# Altium integrated library NSC Amplifier.IntLib: 1615 symbols (part 29 of 44)
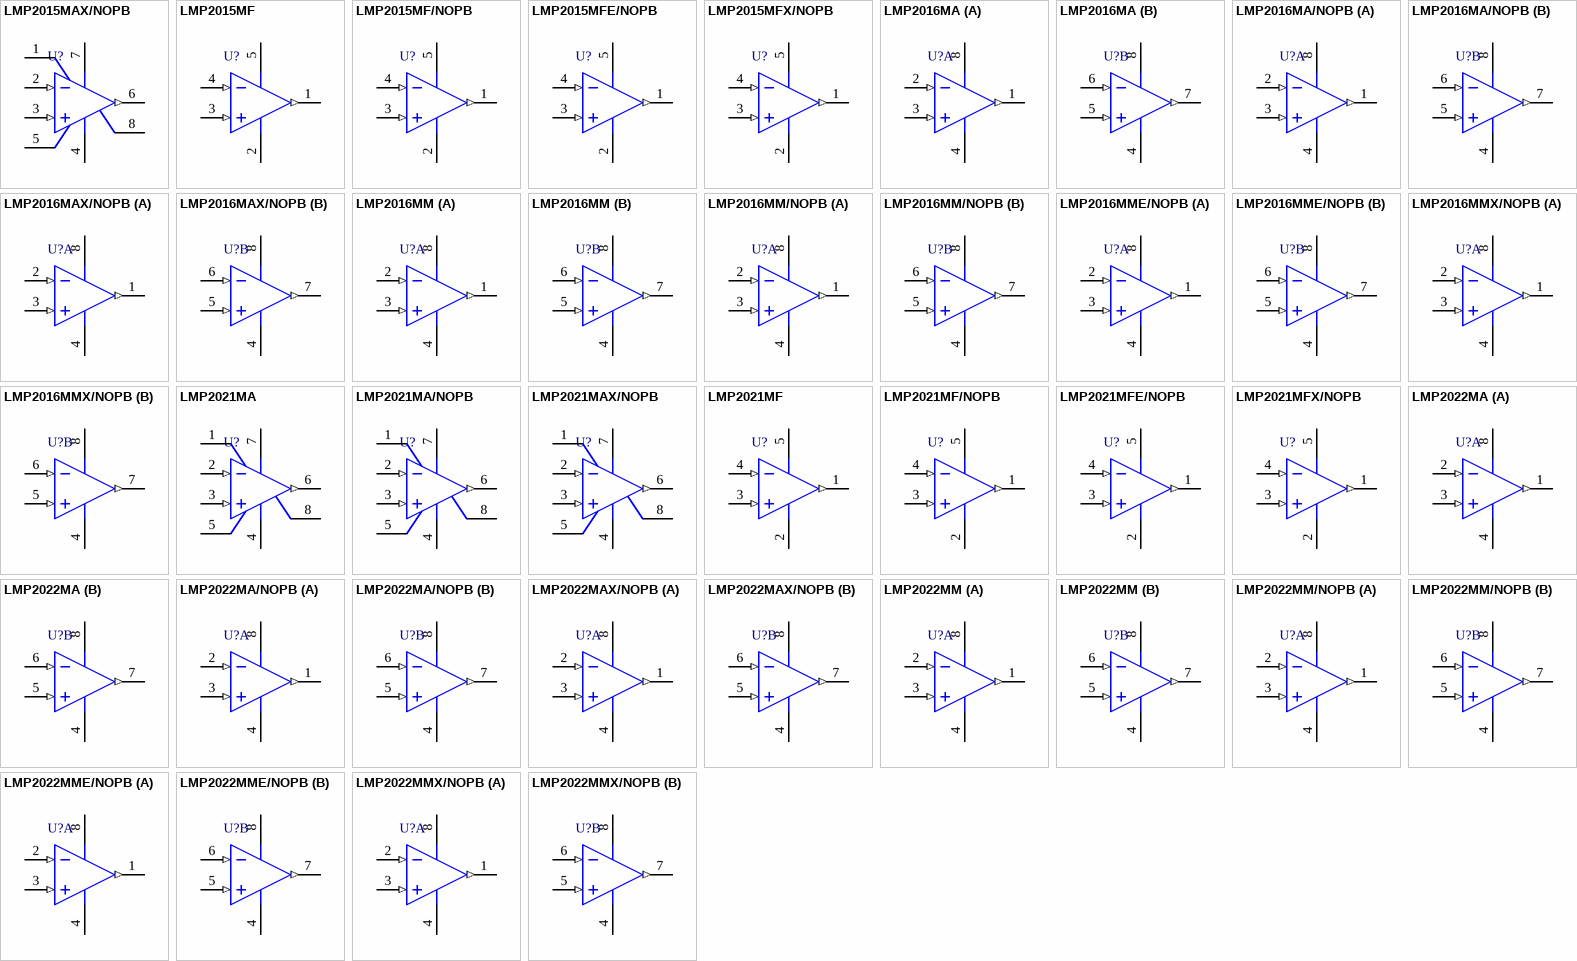
[diagram p110: symbols LMP2015MAX/NOPB to LMP2022MMX/NOPB]

## LMP2022MM/NOPB
designator U?
Zero Drift, Low Noise, EMI Hardened Amplifier, 8-pin Mini SOIC, Pb-Free; PartNumber: LMP2022MM/NOPB; Manufacturer: National Semiconductor; PackageTopMarking: ZXTT*AV5A; PowerWise: N; CompType: Amplifiers; Published: 1-Mar-2010; DatasheetVersion: Jul-2009; PackageVersion: revF, Apr-2008; PackageReference: MUA08A; Publisher: Altium Limited; PackageDescription: MINI SOIC, .118 x .118 x .034in, 8 Lead, .0256in Pitch; Supplier 1: Digi-Key; Supplier Part Number 1: LMP2022MM-ND; RoHS: Y; PinCount: 8; Code_JEDEC: MO-187-AA; ComponentLink1Description: LMP2022 Datasheet; ComponentLink1URL: http://www.national.com/ds/LM/LMP2022.pdf; ComponentLink2Description: LMP2022 Web Page; ComponentLink2URL: http://www.national.com/pf/LM/LMP2022.html; ComponentLink3Description: MUA08A Package Page; ComponentLink3URL: http://www.national.com/packaging/folders/mua08a.html
footprint MUA08A_N (TSOP, 8-Leads, Body 3x3mm, Pitch 0.65mm, IPC Medium Density)
footprint MUA08A_L (TSOP, 8-Leads, Body 3x3mm, Pitch 0.65mm, IPC High Density)
footprint MUA08A_M (TSOP, 8-Leads, Body 3x3mm, Pitch 0.65mm, IPC Low Density)
simulation model LMP2022 (SUBCKT)
pins on every part: 4 V- (power), 8 V+ (power)
part A pins: 1 OUTA (out), 2 INA- (in), 3 INA+ (in)
part B pins: 5 INB+ (in), 6 INB- (in), 7 OUTB (out)

## LMP2022MME/NOPB
designator U?
Zero Drift, Low Noise, EMI Hardened Amplifier, 8-pin Mini SOIC, Pb-Free; PartNumber: LMP2022MME/NOPB; Manufacturer: National Semiconductor; PackageTopMarking: ZXTT*AV5A; PowerWise: N; CompType: Amplifiers; Published: 1-Mar-2010; DatasheetVersion: Jul-2009; PackageVersion: revF, Apr-2008; PackageReference: MUA08A; Publisher: Altium Limited; PackageDescription: MINI SOIC, .118 x .118 x .034in, 8 Lead, .0256in Pitch; Supplier 1: Digi-Key; Supplier Part Number 1: LMP2022MMETR-ND; Supplier 2: Digi-Key; Supplier Part Number 2: LMP2022MMECT-ND; Supplier 3: Digi-Key; Supplier Part Number 3: LMP2022MMEDKR-ND; Supplier 4: Farnell; Supplier Part Number 4: 1684982; RoHS: Y; PinCount: 8; Code_JEDEC: MO-187-AA; ComponentLink1Description: LMP2022 Datasheet; ComponentLink1URL: http://www.national.com/ds/LM/LMP2022.pdf; ComponentLink2Description: LMP2022 Web Page; ComponentLink2URL: http://www.national.com/pf/LM/LMP2022.html; ComponentLink3Description: MUA08A Package Page; ComponentLink3URL: http://www.national.com/packaging/folders/mua08a.html
footprint MUA08A_N (TSOP, 8-Leads, Body 3x3mm, Pitch 0.65mm, IPC Medium Density)
footprint MUA08A_L (TSOP, 8-Leads, Body 3x3mm, Pitch 0.65mm, IPC High Density)
footprint MUA08A_M (TSOP, 8-Leads, Body 3x3mm, Pitch 0.65mm, IPC Low Density)
simulation model LMP2022 (SUBCKT)
pins on every part: 4 V- (power), 8 V+ (power)
part A pins: 1 OUTA (out), 2 INA- (in), 3 INA+ (in)
part B pins: 5 INB+ (in), 6 INB- (in), 7 OUTB (out)

## LMP2022MMX/NOPB
designator U?
Zero Drift, Low Noise, EMI Hardened Amplifier, 8-pin Mini SOIC, Pb-Free; PartNumber: LMP2022MMX/NOPB; Manufacturer: National Semiconductor; PackageTopMarking: ZXTT*AV5A; PowerWise: N; CompType: Amplifiers; Published: 1-Mar-2010; DatasheetVersion: Jul-2009; PackageVersion: revF, Apr-2008; PackageReference: MUA08A; Publisher: Altium Limited; PackageDescription: MINI SOIC, .118 x .118 x .034in, 8 Lead, .0256in Pitch; Supplier 1: Digi-Key; Supplier Part Number 1: LMP2022MMX-ND; RoHS: Y; PinCount: 8; Code_JEDEC: MO-187-AA; ComponentLink1Description: LMP2022 Datasheet; ComponentLink1URL: http://www.national.com/ds/LM/LMP2022.pdf; ComponentLink2Description: LMP2022 Web Page; ComponentLink2URL: http://www.national.com/pf/LM/LMP2022.html; ComponentLink3Description: MUA08A Package Page; ComponentLink3URL: http://www.national.com/packaging/folders/mua08a.html
footprint MUA08A_N (TSOP, 8-Leads, Body 3x3mm, Pitch 0.65mm, IPC Medium Density)
footprint MUA08A_L (TSOP, 8-Leads, Body 3x3mm, Pitch 0.65mm, IPC High Density)
footprint MUA08A_M (TSOP, 8-Leads, Body 3x3mm, Pitch 0.65mm, IPC Low Density)
simulation model LMP2022 (SUBCKT)
pins on every part: 4 V- (power), 8 V+ (power)
part A pins: 1 OUTA (out), 2 INA- (in), 3 INA+ (in)
part B pins: 5 INB+ (in), 6 INB- (in), 7 OUTB (out)

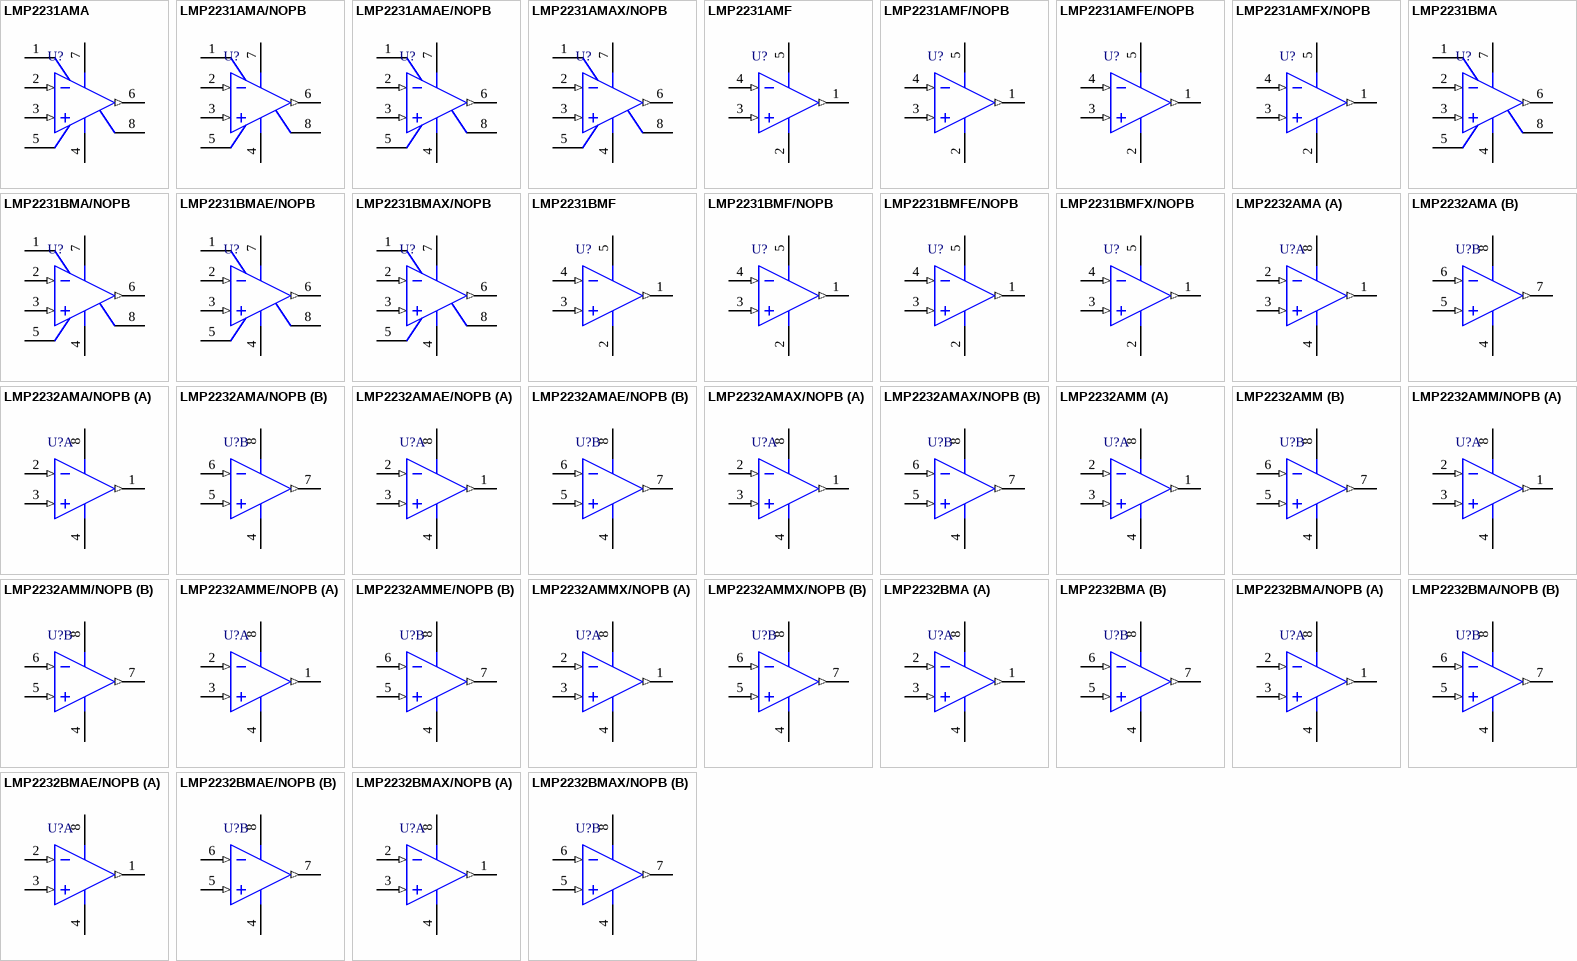
[diagram p56: symbols LMP2231AMA to LMP2232BMAX/NOPB]

## LMP2231AMA
designator U?
Single Micropower, 1.6V, Precision Operational Amplifier with CMOS Inputs, 8-pin Narrow SOIC; PartNumber: LMP2231AMA; Manufacturer: National Semiconductor; PackageTopMarking: NSZXTT*LMP22*31AMA; PowerWise: N; CompType: Amplifiers; Published: 4-Dec-2008; DatasheetVersion: Dec-2008; PackageVersion: revM, May-2009; PackageReference: M08A; Publisher: Altium Limited; PackageDescription: SOIC Narrow, 4.9 x 3.9 x 1.45mm, 8 Lead, 1.27mm Pitch; RoHS: Y; PinCount: 8; Code_JEDEC: MS-012-AA; Code_IPC: SOIC127P600-8; ComponentLink1Description: LMP2231 Datasheet; ComponentLink1URL: http://www.national.com/ds/LM/LMP2231.pdf; ComponentLink2Description: LMP2231 Web Page; ComponentLink2URL: http://www.national.com/pf/LM/LMP2231.html; ComponentLink3Description: M08A Package Page; ComponentLink3URL: http://www.national.com/packaging/folders/m08a.html
footprint M08A_N (SOIC, 8-Leads, Body 4.9x3.9mm, Pitch 1.27mm, IPC Medium Density)
footprint M08A_L (SOIC, 8-Leads, Body 4.9x3.9mm, Pitch 1.27mm, IPC High Density)
footprint M08A_M (SOIC, 8-Leads, Body 4.9x3.9mm, Pitch 1.27mm, IPC Low Density)
pins: 1 NC, 2 IN- (in), 3 IN+ (in), 4 V- (power), 5 NC, 6 OUT (out), 7 V+ (power), 8 NC

## LMP2231AMA/NOPB
designator U?
Single Micropower, 1.6V, Precision Operational Amplifier with CMOS Inputs, 8-pin Narrow SOIC, Pb-Free; PartNumber: LMP2231AMA/NOPB; Manufacturer: National Semiconductor; PackageTopMarking: NSZXTT*LMP22*31AMA; PowerWise: N; CompType: Amplifiers; Published: 1-Mar-2010; DatasheetVersion: Dec-2008; PackageVersion: revM, May-2009; PackageReference: M08A; Publisher: Altium Limited; PackageDescription: SOIC Narrow, 4.9 x 3.9 x 1.45mm, 8 Lead, 1.27mm Pitch; Supplier 1: Digi-Key; Supplier Part Number 1: LMP2231AMA-ND; RoHS: Y; PinCount: 8; Code_JEDEC: MS-012-AA; Code_IPC: SOIC127P600-8; ComponentLink1Description: LMP2231 Datasheet; ComponentLink1URL: http://www.national.com/ds/LM/LMP2231.pdf; ComponentLink2Description: LMP2231 Web Page; ComponentLink2URL: http://www.national.com/pf/LM/LMP2231.html; ComponentLink3Description: M08A Package Page; ComponentLink3URL: http://www.national.com/packaging/folders/m08a.html
footprint M08A_N (SOIC, 8-Leads, Body 4.9x3.9mm, Pitch 1.27mm, IPC Medium Density)
footprint M08A_L (SOIC, 8-Leads, Body 4.9x3.9mm, Pitch 1.27mm, IPC High Density)
footprint M08A_M (SOIC, 8-Leads, Body 4.9x3.9mm, Pitch 1.27mm, IPC Low Density)
simulation model LMP2231 (SUBCKT)
pins: 1 NC, 2 IN- (in), 3 IN+ (in), 4 V- (power), 5 NC, 6 OUT (out), 7 V+ (power), 8 NC

## LMP2231AMAE/NOPB
designator U?
Single Micropower, 1.6V, Precision Operational Amplifier with CMOS Inputs, 8-pin Narrow SOIC, Pb-Free; PartNumber: LMP2231AMAE/NOPB; Manufacturer: National Semiconductor; PackageTopMarking: NSZXTT*LMP22*31AMA; PowerWise: N; CompType: Amplifiers; Published: 1-Mar-2010; DatasheetVersion: Dec-2008; PackageVersion: revM, May-2009; PackageReference: M08A; Publisher: Altium Limited; PackageDescription: SOIC Narrow, 4.9 x 3.9 x 1.45mm, 8 Lead, 1.27mm Pitch; Supplier 1: Digi-Key; Supplier Part Number 1: LMP2231AMAE-ND; RoHS: Y; PinCount: 8; Code_JEDEC: MS-012-AA; Code_IPC: SOIC127P600-8; ComponentLink1Description: LMP2231 Datasheet; ComponentLink1URL: http://www.national.com/ds/LM/LMP2231.pdf; ComponentLink2Description: LMP2231 Web Page; ComponentLink2URL: http://www.national.com/pf/LM/LMP2231.html; ComponentLink3Description: M08A Package Page; ComponentLink3URL: http://www.national.com/packaging/folders/m08a.html
footprint M08A_N (SOIC, 8-Leads, Body 4.9x3.9mm, Pitch 1.27mm, IPC Medium Density)
footprint M08A_L (SOIC, 8-Leads, Body 4.9x3.9mm, Pitch 1.27mm, IPC High Density)
footprint M08A_M (SOIC, 8-Leads, Body 4.9x3.9mm, Pitch 1.27mm, IPC Low Density)
simulation model LMP2231 (SUBCKT)
pins: 1 NC, 2 IN- (in), 3 IN+ (in), 4 V- (power), 5 NC, 6 OUT (out), 7 V+ (power), 8 NC

## LMP2231AMAX/NOPB
designator U?
Single Micropower, 1.6V, Precision Operational Amplifier with CMOS Inputs, 8-pin Narrow SOIC, Pb-Free; PartNumber: LMP2231AMAX/NOPB; Manufacturer: National Semiconductor; PackageTopMarking: NSZXTT*LMP22*31AMA; PowerWise: N; CompType: Amplifiers; Published: 1-Mar-2010; DatasheetVersion: Dec-2008; PackageVersion: revM, May-2009; PackageReference: M08A; Publisher: Altium Limited; PackageDescription: SOIC Narrow, 4.9 x 3.9 x 1.45mm, 8 Lead, 1.27mm Pitch; Supplier 1: Digi-Key; Supplier Part Number 1: LMP2231AMAX-ND; RoHS: Y; PinCount: 8; Code_JEDEC: MS-012-AA; Code_IPC: SOIC127P600-8; ComponentLink1Description: LMP2231 Datasheet; ComponentLink1URL: http://www.national.com/ds/LM/LMP2231.pdf; ComponentLink2Description: LMP2231 Web Page; ComponentLink2URL: http://www.national.com/pf/LM/LMP2231.html; ComponentLink3Description: M08A Package Page; ComponentLink3URL: http://www.national.com/packaging/folders/m08a.html
footprint M08A_N (SOIC, 8-Leads, Body 4.9x3.9mm, Pitch 1.27mm, IPC Medium Density)
footprint M08A_L (SOIC, 8-Leads, Body 4.9x3.9mm, Pitch 1.27mm, IPC High Density)
footprint M08A_M (SOIC, 8-Leads, Body 4.9x3.9mm, Pitch 1.27mm, IPC Low Density)
simulation model LMP2231 (SUBCKT)
pins: 1 NC, 2 IN- (in), 3 IN+ (in), 4 V- (power), 5 NC, 6 OUT (out), 7 V+ (power), 8 NC

## LMP2231AMF
designator U?
Single Micropower, 1.6V, Precision Operational Amplifier with CMOS Inputs, 5-pin SOT-23; PartNumber: LMP2231AMF; Manufacturer: National Semiconductor; PackageTopMarking: AL5A*XTT; PowerWise: N; CompType: Amplifiers; Published: 4-Dec-2008; DatasheetVersion: Dec-2008; PackageVersion: revD, Aug-2008; PackageReference: MF05A; Publisher: Altium Limited; PackageDescription: Molded SOT-23, .115 x .063 x .040 in Body, 5 Lead, .0375 in Pitch; RoHS: Y; PinCount: 5; ComponentLink1Description: LMP2231 Datasheet; ComponentLink1URL: http://www.national.com/ds/LM/LMP2231.pdf; ComponentLink2Description: LMP2231 Web Page; ComponentLink2URL: http://www.national.com/pf/LM/LMP2231.html; ComponentLink3Description: MF05A Package Page; ComponentLink3URL: http://www.national.com/packaging/folders/mf05a.html
footprint MF05A_N (SOT23, 5-Leads, Body 2.9x1.6mm, Pitch 0.95mm, Lead Span 2.8mm, IPC Medium Density)
footprint MF05A_L (SOT23, 5-Leads, Body 2.9x1.6mm, Pitch 0.95mm, Lead Span 2.8mm, IPC High Density)
footprint MF05A_M (SOT23, 5-Leads, Body 2.9x1.6mm, Pitch 0.95mm, Lead Span 2.8mm, IPC Low Density)
pins: 1 OUT (out), 2 V- (power), 3 IN+ (in), 4 IN- (in), 5 V+ (power)

## LMP2231AMF/NOPB
designator U?
Single Micropower, 1.6V, Precision Operational Amplifier with CMOS Inputs, 5-pin SOT-23, Pb-Free; PartNumber: LMP2231AMF/NOPB; Manufacturer: National Semiconductor; PackageTopMarking: AL5A*XTT; PowerWise: N; CompType: Amplifiers; Published: 1-Mar-2010; DatasheetVersion: Dec-2008; PackageVersion: revD, Aug-2008; PackageReference: MF05A; Publisher: Altium Limited; PackageDescription: Molded SOT-23, .115 x .063 x .040 in Body, 5 Lead, .0375 in Pitch; Supplier 1: Digi-Key; Supplier Part Number 1: LMP2231AMFTR-ND; Supplier 2: Digi-Key; Supplier Part Number 2: LMP2231AMFCT-ND; Supplier 3: Digi-Key; Supplier Part Number 3: LMP2231AMFDKR-ND; Supplier 4: Farnell; Supplier Part Number 4: 1694642; RoHS: Y; PinCount: 5; ComponentLink1Description: LMP2231 Datasheet; ComponentLink1URL: http://www.national.com/ds/LM/LMP2231.pdf; ComponentLink2Description: LMP2231 Web Page; ComponentLink2URL: http://www.national.com/pf/LM/LMP2231.html; ComponentLink3Description: MF05A Package Page; ComponentLink3URL: http://www.national.com/packaging/folders/mf05a.html
footprint MF05A_N (SOT23, 5-Leads, Body 2.9x1.6mm, Pitch 0.95mm, Lead Span 2.8mm, IPC Medium Density)
footprint MF05A_L (SOT23, 5-Leads, Body 2.9x1.6mm, Pitch 0.95mm, Lead Span 2.8mm, IPC High Density)
footprint MF05A_M (SOT23, 5-Leads, Body 2.9x1.6mm, Pitch 0.95mm, Lead Span 2.8mm, IPC Low Density)
simulation model LMP2231 (SUBCKT)
pins: 1 OUT (out), 2 V- (power), 3 IN+ (in), 4 IN- (in), 5 V+ (power)

## LMP2231AMFE/NOPB
designator U?
Single Micropower, 1.6V, Precision Operational Amplifier with CMOS Inputs, 5-pin SOT-23, Pb-Free; PartNumber: LMP2231AMFE/NOPB; Manufacturer: National Semiconductor; PackageTopMarking: AL5A*XTT; PowerWise: N; CompType: Amplifiers; Published: 1-Mar-2010; DatasheetVersion: Dec-2008; PackageVersion: revD, Aug-2008; PackageReference: MF05A; Publisher: Altium Limited; PackageDescription: Molded SOT-23, .115 x .063 x .040 in Body, 5 Lead, .0375 in Pitch; Supplier 1: Digi-Key; Supplier Part Number 1: LMP2231AMFE-ND; RoHS: Y; PinCount: 5; ComponentLink1Description: LMP2231 Datasheet; ComponentLink1URL: http://www.national.com/ds/LM/LMP2231.pdf; ComponentLink2Description: LMP2231 Web Page; ComponentLink2URL: http://www.national.com/pf/LM/LMP2231.html; ComponentLink3Description: MF05A Package Page; ComponentLink3URL: http://www.national.com/packaging/folders/mf05a.html
footprint MF05A_N (SOT23, 5-Leads, Body 2.9x1.6mm, Pitch 0.95mm, Lead Span 2.8mm, IPC Medium Density)
footprint MF05A_L (SOT23, 5-Leads, Body 2.9x1.6mm, Pitch 0.95mm, Lead Span 2.8mm, IPC High Density)
footprint MF05A_M (SOT23, 5-Leads, Body 2.9x1.6mm, Pitch 0.95mm, Lead Span 2.8mm, IPC Low Density)
simulation model LMP2231 (SUBCKT)
pins: 1 OUT (out), 2 V- (power), 3 IN+ (in), 4 IN- (in), 5 V+ (power)

## LMP2231AMFX/NOPB
designator U?
Single Micropower, 1.6V, Precision Operational Amplifier with CMOS Inputs, 5-pin SOT-23, Pb-Free; PartNumber: LMP2231AMFX/NOPB; Manufacturer: National Semiconductor; PackageTopMarking: AL5A*XTT; PowerWise: N; CompType: Amplifiers; Published: 1-Mar-2010; DatasheetVersion: Dec-2008; PackageVersion: revD, Aug-2008; PackageReference: MF05A; Publisher: Altium Limited; PackageDescription: Molded SOT-23, .115 x .063 x .040 in Body, 5 Lead, .0375 in Pitch; Supplier 1: Digi-Key; Supplier Part Number 1: LMP2231AMFX-ND; RoHS: Y; PinCount: 5; ComponentLink1Description: LMP2231 Datasheet; ComponentLink1URL: http://www.national.com/ds/LM/LMP2231.pdf; ComponentLink2Description: LMP2231 Web Page; ComponentLink2URL: http://www.national.com/pf/LM/LMP2231.html; ComponentLink3Description: MF05A Package Page; ComponentLink3URL: http://www.national.com/packaging/folders/mf05a.html
footprint MF05A_N (SOT23, 5-Leads, Body 2.9x1.6mm, Pitch 0.95mm, Lead Span 2.8mm, IPC Medium Density)
footprint MF05A_L (SOT23, 5-Leads, Body 2.9x1.6mm, Pitch 0.95mm, Lead Span 2.8mm, IPC High Density)
footprint MF05A_M (SOT23, 5-Leads, Body 2.9x1.6mm, Pitch 0.95mm, Lead Span 2.8mm, IPC Low Density)
simulation model LMP2231 (SUBCKT)
pins: 1 OUT (out), 2 V- (power), 3 IN+ (in), 4 IN- (in), 5 V+ (power)

## LMP2231BMA
designator U?
Single Micropower, 1.6V, Precision Operational Amplifier with CMOS Inputs, 8-pin Narrow SOIC; PartNumber: LMP2231BMA; Manufacturer: National Semiconductor; PackageTopMarking: NSZXTT*LMP22*31BMA; PowerWise: N; CompType: Amplifiers; Published: 4-Dec-2008; DatasheetVersion: Dec-2008; PackageVersion: revM, May-2009; PackageReference: M08A; Publisher: Altium Limited; PackageDescription: SOIC Narrow, 4.9 x 3.9 x 1.45mm, 8 Lead, 1.27mm Pitch; RoHS: Y; PinCount: 8; Code_JEDEC: MS-012-AA; Code_IPC: SOIC127P600-8; ComponentLink1Description: LMP2231 Datasheet; ComponentLink1URL: http://www.national.com/ds/LM/LMP2231.pdf; ComponentLink2Description: LMP2231 Web Page; ComponentLink2URL: http://www.national.com/pf/LM/LMP2231.html; ComponentLink3Description: M08A Package Page; ComponentLink3URL: http://www.national.com/packaging/folders/m08a.html
footprint M08A_N (SOIC, 8-Leads, Body 4.9x3.9mm, Pitch 1.27mm, IPC Medium Density)
footprint M08A_L (SOIC, 8-Leads, Body 4.9x3.9mm, Pitch 1.27mm, IPC High Density)
footprint M08A_M (SOIC, 8-Leads, Body 4.9x3.9mm, Pitch 1.27mm, IPC Low Density)
pins: 1 NC, 2 IN- (in), 3 IN+ (in), 4 V- (power), 5 NC, 6 OUT (out), 7 V+ (power), 8 NC

## LMP2231BMA/NOPB
designator U?
Single Micropower, 1.6V, Precision Operational Amplifier with CMOS Inputs, 8-pin Narrow SOIC, Pb-Free; PartNumber: LMP2231BMA/NOPB; Manufacturer: National Semiconductor; PackageTopMarking: NSZXTT*LMP22*31BMA; PowerWise: N; CompType: Amplifiers; Published: 1-Mar-2010; DatasheetVersion: Dec-2008; PackageVersion: revM, May-2009; PackageReference: M08A; Publisher: Altium Limited; PackageDescription: SOIC Narrow, 4.9 x 3.9 x 1.45mm, 8 Lead, 1.27mm Pitch; Supplier 1: Digi-Key; Supplier Part Number 1: LMP2231BMA-ND; RoHS: Y; PinCount: 8; Code_JEDEC: MS-012-AA; Code_IPC: SOIC127P600-8; ComponentLink1Description: LMP2231 Datasheet; ComponentLink1URL: http://www.national.com/ds/LM/LMP2231.pdf; ComponentLink2Description: LMP2231 Web Page; ComponentLink2URL: http://www.national.com/pf/LM/LMP2231.html; ComponentLink3Description: M08A Package Page; ComponentLink3URL: http://www.national.com/packaging/folders/m08a.html
footprint M08A_N (SOIC, 8-Leads, Body 4.9x3.9mm, Pitch 1.27mm, IPC Medium Density)
footprint M08A_L (SOIC, 8-Leads, Body 4.9x3.9mm, Pitch 1.27mm, IPC High Density)
footprint M08A_M (SOIC, 8-Leads, Body 4.9x3.9mm, Pitch 1.27mm, IPC Low Density)
simulation model LMP2231 (SUBCKT)
pins: 1 NC, 2 IN- (in), 3 IN+ (in), 4 V- (power), 5 NC, 6 OUT (out), 7 V+ (power), 8 NC

## LMP2231BMAE/NOPB
designator U?
Single Micropower, 1.6V, Precision Operational Amplifier with CMOS Inputs, 8-pin Narrow SOIC, Pb-Free; PartNumber: LMP2231BMAE/NOPB; Manufacturer: National Semiconductor; PackageTopMarking: NSZXTT*LMP22*31BMA; PowerWise: N; CompType: Amplifiers; Published: 1-Mar-2010; DatasheetVersion: Dec-2008; PackageVersion: revM, May-2009; PackageReference: M08A; Publisher: Altium Limited; PackageDescription: SOIC Narrow, 4.9 x 3.9 x 1.45mm, 8 Lead, 1.27mm Pitch; Supplier 1: Digi-Key; Supplier Part Number 1: LMP2231BMAE-ND; RoHS: Y; PinCount: 8; Code_JEDEC: MS-012-AA; Code_IPC: SOIC127P600-8; ComponentLink1Description: LMP2231 Datasheet; ComponentLink1URL: http://www.national.com/ds/LM/LMP2231.pdf; ComponentLink2Description: LMP2231 Web Page; ComponentLink2URL: http://www.national.com/pf/LM/LMP2231.html; ComponentLink3Description: M08A Package Page; ComponentLink3URL: http://www.national.com/packaging/folders/m08a.html
footprint M08A_N (SOIC, 8-Leads, Body 4.9x3.9mm, Pitch 1.27mm, IPC Medium Density)
footprint M08A_L (SOIC, 8-Leads, Body 4.9x3.9mm, Pitch 1.27mm, IPC High Density)
footprint M08A_M (SOIC, 8-Leads, Body 4.9x3.9mm, Pitch 1.27mm, IPC Low Density)
simulation model LMP2231 (SUBCKT)
pins: 1 NC, 2 IN- (in), 3 IN+ (in), 4 V- (power), 5 NC, 6 OUT (out), 7 V+ (power), 8 NC

## LMP2231BMAX/NOPB
designator U?
Single Micropower, 1.6V, Precision Operational Amplifier with CMOS Inputs, 8-pin Narrow SOIC, Pb-Free; PartNumber: LMP2231BMAX/NOPB; Manufacturer: National Semiconductor; PackageTopMarking: NSZXTT*LMP22*31BMA; PowerWise: N; CompType: Amplifiers; Published: 1-Mar-2010; DatasheetVersion: Dec-2008; PackageVersion: revM, May-2009; PackageReference: M08A; Publisher: Altium Limited; PackageDescription: SOIC Narrow, 4.9 x 3.9 x 1.45mm, 8 Lead, 1.27mm Pitch; Supplier 1: Digi-Key; Supplier Part Number 1: LMP2231BMAX-ND; RoHS: Y; PinCount: 8; Code_JEDEC: MS-012-AA; Code_IPC: SOIC127P600-8; ComponentLink1Description: LMP2231 Datasheet; ComponentLink1URL: http://www.national.com/ds/LM/LMP2231.pdf; ComponentLink2Description: LMP2231 Web Page; ComponentLink2URL: http://www.national.com/pf/LM/LMP2231.html; ComponentLink3Description: M08A Package Page; ComponentLink3URL: http://www.national.com/packaging/folders/m08a.html
footprint M08A_N (SOIC, 8-Leads, Body 4.9x3.9mm, Pitch 1.27mm, IPC Medium Density)
footprint M08A_L (SOIC, 8-Leads, Body 4.9x3.9mm, Pitch 1.27mm, IPC High Density)
footprint M08A_M (SOIC, 8-Leads, Body 4.9x3.9mm, Pitch 1.27mm, IPC Low Density)
simulation model LMP2231 (SUBCKT)
pins: 1 NC, 2 IN- (in), 3 IN+ (in), 4 V- (power), 5 NC, 6 OUT (out), 7 V+ (power), 8 NC

## LMP2231BMF
designator U?
Single Micropower, 1.6V, Precision Operational Amplifier with CMOS Inputs, 5-pin SOT-23; PartNumber: LMP2231BMF; Manufacturer: National Semiconductor; PackageTopMarking: AL5B*XTT; PowerWise: N; CompType: Amplifiers; Published: 4-Dec-2008; DatasheetVersion: Dec-2008; PackageVersion: revD, Aug-2008; PackageReference: MF05A; Publisher: Altium Limited; PackageDescription: Molded SOT-23, .115 x .063 x .040 in Body, 5 Lead, .0375 in Pitch; RoHS: Y; PinCount: 5; ComponentLink1Description: LMP2231 Datasheet; ComponentLink1URL: http://www.national.com/ds/LM/LMP2231.pdf; ComponentLink2Description: LMP2231 Web Page; ComponentLink2URL: http://www.national.com/pf/LM/LMP2231.html; ComponentLink3Description: MF05A Package Page; ComponentLink3URL: http://www.national.com/packaging/folders/mf05a.html
footprint MF05A_N (SOT23, 5-Leads, Body 2.9x1.6mm, Pitch 0.95mm, Lead Span 2.8mm, IPC Medium Density)
footprint MF05A_L (SOT23, 5-Leads, Body 2.9x1.6mm, Pitch 0.95mm, Lead Span 2.8mm, IPC High Density)
footprint MF05A_M (SOT23, 5-Leads, Body 2.9x1.6mm, Pitch 0.95mm, Lead Span 2.8mm, IPC Low Density)
pins: 1 OUT (out), 2 V- (power), 3 IN+ (in), 4 IN- (in), 5 V+ (power)

## LMP2231BMF/NOPB
designator U?
Single Micropower, 1.6V, Precision Operational Amplifier with CMOS Inputs, 5-pin SOT-23, Pb-Free; PartNumber: LMP2231BMF/NOPB; Manufacturer: National Semiconductor; PackageTopMarking: AL5B*XTT; PowerWise: N; CompType: Amplifiers; Published: 1-Mar-2010; DatasheetVersion: Dec-2008; PackageVersion: revD, Aug-2008; PackageReference: MF05A; Publisher: Altium Limited; PackageDescription: Molded SOT-23, .115 x .063 x .040 in Body, 5 Lead, .0375 in Pitch; Supplier 1: Digi-Key; Supplier Part Number 1: LMP2231BMFTR-ND; Supplier 2: Digi-Key; Supplier Part Number 2: LMP2231BMFCT-ND; Supplier 3: Digi-Key; Supplier Part Number 3: LMP2231BMFDKR-ND; RoHS: Y; PinCount: 5; ComponentLink1Description: LMP2231 Datasheet; ComponentLink1URL: http://www.national.com/ds/LM/LMP2231.pdf; ComponentLink2Description: LMP2231 Web Page; ComponentLink2URL: http://www.national.com/pf/LM/LMP2231.html; ComponentLink3Description: MF05A Package Page; ComponentLink3URL: http://www.national.com/packaging/folders/mf05a.html
footprint MF05A_N (SOT23, 5-Leads, Body 2.9x1.6mm, Pitch 0.95mm, Lead Span 2.8mm, IPC Medium Density)
footprint MF05A_L (SOT23, 5-Leads, Body 2.9x1.6mm, Pitch 0.95mm, Lead Span 2.8mm, IPC High Density)
footprint MF05A_M (SOT23, 5-Leads, Body 2.9x1.6mm, Pitch 0.95mm, Lead Span 2.8mm, IPC Low Density)
simulation model LMP2231 (SUBCKT)
pins: 1 OUT (out), 2 V- (power), 3 IN+ (in), 4 IN- (in), 5 V+ (power)

## LMP2231BMFE/NOPB
designator U?
Single Micropower, 1.6V, Precision Operational Amplifier with CMOS Inputs, 5-pin SOT-23, Pb-Free; PartNumber: LMP2231BMFE/NOPB; Manufacturer: National Semiconductor; PackageTopMarking: AL5B*XTT; PowerWise: N; CompType: Amplifiers; Published: 1-Mar-2010; DatasheetVersion: Dec-2008; PackageVersion: revD, Aug-2008; PackageReference: MF05A; Publisher: Altium Limited; PackageDescription: Molded SOT-23, .115 x .063 x .040 in Body, 5 Lead, .0375 in Pitch; Supplier 1: Digi-Key; Supplier Part Number 1: LMP2231BMFETR-ND; Supplier 2: Digi-Key; Supplier Part Number 2: LMP2231BMFECT-ND; Supplier 3: Digi-Key; Supplier Part Number 3: LMP2231BMFEDKR-ND; RoHS: Y; PinCount: 5; ComponentLink1Description: LMP2231 Datasheet; ComponentLink1URL: http://www.national.com/ds/LM/LMP2231.pdf; ComponentLink2Description: LMP2231 Web Page; ComponentLink2URL: http://www.national.com/pf/LM/LMP2231.html; ComponentLink3Description: MF05A Package Page; ComponentLink3URL: http://www.national.com/packaging/folders/mf05a.html
footprint MF05A_N (SOT23, 5-Leads, Body 2.9x1.6mm, Pitch 0.95mm, Lead Span 2.8mm, IPC Medium Density)
footprint MF05A_L (SOT23, 5-Leads, Body 2.9x1.6mm, Pitch 0.95mm, Lead Span 2.8mm, IPC High Density)
footprint MF05A_M (SOT23, 5-Leads, Body 2.9x1.6mm, Pitch 0.95mm, Lead Span 2.8mm, IPC Low Density)
simulation model LMP2231 (SUBCKT)
pins: 1 OUT (out), 2 V- (power), 3 IN+ (in), 4 IN- (in), 5 V+ (power)

## LMP2231BMFX/NOPB
designator U?
Single Micropower, 1.6V, Precision Operational Amplifier with CMOS Inputs, 5-pin SOT-23, Pb-Free; PartNumber: LMP2231BMFX/NOPB; Manufacturer: National Semiconductor; PackageTopMarking: AL5B*XTT; PowerWise: N; CompType: Amplifiers; Published: 1-Mar-2010; DatasheetVersion: Dec-2008; PackageVersion: revD, Aug-2008; PackageReference: MF05A; Publisher: Altium Limited; PackageDescription: Molded SOT-23, .115 x .063 x .040 in Body, 5 Lead, .0375 in Pitch; Supplier 1: Digi-Key; Supplier Part Number 1: LMP2231BMFX-ND; RoHS: Y; PinCount: 5; ComponentLink1Description: LMP2231 Datasheet; ComponentLink1URL: http://www.national.com/ds/LM/LMP2231.pdf; ComponentLink2Description: LMP2231 Web Page; ComponentLink2URL: http://www.national.com/pf/LM/LMP2231.html; ComponentLink3Description: MF05A Package Page; ComponentLink3URL: http://www.national.com/packaging/folders/mf05a.html
footprint MF05A_N (SOT23, 5-Leads, Body 2.9x1.6mm, Pitch 0.95mm, Lead Span 2.8mm, IPC Medium Density)
footprint MF05A_L (SOT23, 5-Leads, Body 2.9x1.6mm, Pitch 0.95mm, Lead Span 2.8mm, IPC High Density)
footprint MF05A_M (SOT23, 5-Leads, Body 2.9x1.6mm, Pitch 0.95mm, Lead Span 2.8mm, IPC Low Density)
simulation model LMP2231 (SUBCKT)
pins: 1 OUT (out), 2 V- (power), 3 IN+ (in), 4 IN- (in), 5 V+ (power)

## LMP2232AMA
designator U?
Dual, Micropower, 1.6V, Precision , Operational Amplifier with CMOS Input, 8-pin Narrow SOIC; PartNumber: LMP2232AMA; Manufacturer: National Semiconductor; PackageTopMarking: NSZXTT*LMP22*32AMA; PowerWise: Y; CompType: Amplifiers; Published: 4-Dec-2008; DatasheetVersion: Dec-2008; PackageVersion: revM, May-2009; PackageReference: M08A; Publisher: Altium Limited; PackageDescription: SOIC Narrow, 4.9 x 3.9 x 1.45mm, 8 Lead, 1.27mm Pitch; RoHS: Y; PinCount: 8; Code_JEDEC: MS-012-AA; Code_IPC: SOIC127P600-8; ComponentLink1Description: LMP2232 Datasheet; ComponentLink1URL: http://www.national.com/ds/LM/LMP2232.pdf; ComponentLink2Description: LMP2232 Web Page; ComponentLink2URL: http://www.national.com/pf/LM/LMP2232.html; ComponentLink3Description: M08A Package Page; ComponentLink3URL: http://www.national.com/packaging/folders/m08a.html
footprint M08A_N (SOIC, 8-Leads, Body 4.9x3.9mm, Pitch 1.27mm, IPC Medium Density)
footprint M08A_L (SOIC, 8-Leads, Body 4.9x3.9mm, Pitch 1.27mm, IPC High Density)
footprint M08A_M (SOIC, 8-Leads, Body 4.9x3.9mm, Pitch 1.27mm, IPC Low Density)
pins on every part: 4 V- (power), 8 V+ (power)
part A pins: 1 OUTA (out), 2 INA- (in), 3 INA+ (in)
part B pins: 5 INB+ (in), 6 INB- (in), 7 OUTB (out)

## LMP2232AMA/NOPB
designator U?
Dual, Micropower, 1.6V, Precision , Operational Amplifier with CMOS Input, 8-pin Narrow SOIC, Pb-Free; PartNumber: LMP2232AMA/NOPB; Manufacturer: National Semiconductor; PackageTopMarking: NSZXTT*LMP22*32AMA; PowerWise: Y; CompType: Amplifiers; Published: 1-Mar-2010; DatasheetVersion: Dec-2008; PackageVersion: revM, May-2009; PackageReference: M08A; Publisher: Altium Limited; PackageDescription: SOIC Narrow, 4.9 x 3.9 x 1.45mm, 8 Lead, 1.27mm Pitch; Supplier 1: Digi-Key; Supplier Part Number 1: LMP2232AMA-ND; RoHS: Y; PinCount: 8; Code_JEDEC: MS-012-AA; Code_IPC: SOIC127P600-8; ComponentLink1Description: LMP2232 Datasheet; ComponentLink1URL: http://www.national.com/ds/LM/LMP2232.pdf; ComponentLink2Description: LMP2232 Web Page; ComponentLink2URL: http://www.national.com/pf/LM/LMP2232.html; ComponentLink3Description: M08A Package Page; ComponentLink3URL: http://www.national.com/packaging/folders/m08a.html
footprint M08A_N (SOIC, 8-Leads, Body 4.9x3.9mm, Pitch 1.27mm, IPC Medium Density)
footprint M08A_L (SOIC, 8-Leads, Body 4.9x3.9mm, Pitch 1.27mm, IPC High Density)
footprint M08A_M (SOIC, 8-Leads, Body 4.9x3.9mm, Pitch 1.27mm, IPC Low Density)
simulation model LMP2232 (SUBCKT)
pins on every part: 4 V- (power), 8 V+ (power)
part A pins: 1 OUTA (out), 2 INA- (in), 3 INA+ (in)
part B pins: 5 INB+ (in), 6 INB- (in), 7 OUTB (out)

## LMP2232AMAE/NOPB
designator U?
Dual, Micropower, 1.6V, Precision , Operational Amplifier with CMOS Input, 8-pin Narrow SOIC, Pb-Free; PartNumber: LMP2232AMAE/NOPB; Manufacturer: National Semiconductor; PackageTopMarking: NSZXTT*LMP22*32AMA; PowerWise: Y; CompType: Amplifiers; Published: 1-Mar-2010; DatasheetVersion: Dec-2008; PackageVersion: revM, May-2009; PackageReference: M08A; Publisher: Altium Limited; PackageDescription: SOIC Narrow, 4.9 x 3.9 x 1.45mm, 8 Lead, 1.27mm Pitch; Supplier 1: Digi-Key; Supplier Part Number 1: LMP2232AMAE-ND; Supplier 2: Farnell; Supplier Part Number 2: 1554965; RoHS: Y; PinCount: 8; Code_JEDEC: MS-012-AA; Code_IPC: SOIC127P600-8; ComponentLink1Description: LMP2232 Datasheet; ComponentLink1URL: http://www.national.com/ds/LM/LMP2232.pdf; ComponentLink2Description: LMP2232 Web Page; ComponentLink2URL: http://www.national.com/pf/LM/LMP2232.html; ComponentLink3Description: M08A Package Page; ComponentLink3URL: http://www.national.com/packaging/folders/m08a.html
footprint M08A_N (SOIC, 8-Leads, Body 4.9x3.9mm, Pitch 1.27mm, IPC Medium Density)
footprint M08A_L (SOIC, 8-Leads, Body 4.9x3.9mm, Pitch 1.27mm, IPC High Density)
footprint M08A_M (SOIC, 8-Leads, Body 4.9x3.9mm, Pitch 1.27mm, IPC Low Density)
simulation model LMP2232 (SUBCKT)
pins on every part: 4 V- (power), 8 V+ (power)
part A pins: 1 OUTA (out), 2 INA- (in), 3 INA+ (in)
part B pins: 5 INB+ (in), 6 INB- (in), 7 OUTB (out)

## LMP2232AMAX/NOPB
designator U?
Dual, Micropower, 1.6V, Precision , Operational Amplifier with CMOS Input, 8-pin Narrow SOIC, Pb-Free; PartNumber: LMP2232AMAX/NOPB; Manufacturer: National Semiconductor; PackageTopMarking: NSZXTT*LMP22*32AMA; PowerWise: Y; CompType: Amplifiers; Published: 1-Mar-2010; DatasheetVersion: Dec-2008; PackageVersion: revM, May-2009; PackageReference: M08A; Publisher: Altium Limited; PackageDescription: SOIC Narrow, 4.9 x 3.9 x 1.45mm, 8 Lead, 1.27mm Pitch; Supplier 1: Digi-Key; Supplier Part Number 1: LMP2232AMAX-ND; RoHS: Y; PinCount: 8; Code_JEDEC: MS-012-AA; Code_IPC: SOIC127P600-8; ComponentLink1Description: LMP2232 Datasheet; ComponentLink1URL: http://www.national.com/ds/LM/LMP2232.pdf; ComponentLink2Description: LMP2232 Web Page; ComponentLink2URL: http://www.national.com/pf/LM/LMP2232.html; ComponentLink3Description: M08A Package Page; ComponentLink3URL: http://www.national.com/packaging/folders/m08a.html
footprint M08A_N (SOIC, 8-Leads, Body 4.9x3.9mm, Pitch 1.27mm, IPC Medium Density)
footprint M08A_L (SOIC, 8-Leads, Body 4.9x3.9mm, Pitch 1.27mm, IPC High Density)
footprint M08A_M (SOIC, 8-Leads, Body 4.9x3.9mm, Pitch 1.27mm, IPC Low Density)
simulation model LMP2232 (SUBCKT)
pins on every part: 4 V- (power), 8 V+ (power)
part A pins: 1 OUTA (out), 2 INA- (in), 3 INA+ (in)
part B pins: 5 INB+ (in), 6 INB- (in), 7 OUTB (out)

## LMP2232AMM
designator U?
Dual, Micropower, 1.6V, Precision , Operational Amplifier with CMOS Input, 8-pin Mini SOIC; PartNumber: LMP2232AMM; Manufacturer: National Semiconductor; PackageTopMarking: ZXTT*AK5A; PowerWise: Y; CompType: Amplifiers; Published: 4-Dec-2008; DatasheetVersion: Dec-2008; PackageVersion: revF, Apr-2008; PackageReference: MUA08A; Publisher: Altium Limited; PackageDescription: MINI SOIC, .118 x .118 x .034in, 8 Lead, .0256in Pitch; RoHS: Y; PinCount: 8; Code_JEDEC: MO-187-AA; ComponentLink1Description: LMP2232 Datasheet; ComponentLink1URL: http://www.national.com/ds/LM/LMP2232.pdf; ComponentLink2Description: LMP2232 Web Page; ComponentLink2URL: http://www.national.com/pf/LM/LMP2232.html; ComponentLink3Description: MUA08A Package Page; ComponentLink3URL: http://www.national.com/packaging/folders/mua08a.html
footprint MUA08A_N (TSOP, 8-Leads, Body 3x3mm, Pitch 0.65mm, IPC Medium Density)
footprint MUA08A_L (TSOP, 8-Leads, Body 3x3mm, Pitch 0.65mm, IPC High Density)
footprint MUA08A_M (TSOP, 8-Leads, Body 3x3mm, Pitch 0.65mm, IPC Low Density)
pins on every part: 4 V- (power), 8 V+ (power)
part A pins: 1 OUTA (out), 2 INA- (in), 3 INA+ (in)
part B pins: 5 INB+ (in), 6 INB- (in), 7 OUTB (out)

## LMP2232AMM/NOPB
designator U?
Dual, Micropower, 1.6V, Precision , Operational Amplifier with CMOS Input, 8-pin Mini SOIC, Pb-Free; PartNumber: LMP2232AMM/NOPB; Manufacturer: National Semiconductor; PackageTopMarking: ZXTT*AK5A; PowerWise: Y; CompType: Amplifiers; Published: 1-Mar-2010; DatasheetVersion: Dec-2008; PackageVersion: revF, Apr-2008; PackageReference: MUA08A; Publisher: Altium Limited; PackageDescription: MINI SOIC, .118 x .118 x .034in, 8 Lead, .0256in Pitch; Supplier 1: Digi-Key; Supplier Part Number 1: LMP2232AMMTR-ND; Supplier 2: Digi-Key; Supplier Part Number 2: LMP2232AMMCT-ND; Supplier 3: Digi-Key; Supplier Part Number 3: LMP2232AMMDKR-ND; RoHS: Y; PinCount: 8; Code_JEDEC: MO-187-AA; ComponentLink1Description: LMP2232 Datasheet; ComponentLink1URL: http://www.national.com/ds/LM/LMP2232.pdf; ComponentLink2Description: LMP2232 Web Page; ComponentLink2URL: http://www.national.com/pf/LM/LMP2232.html; ComponentLink3Description: MUA08A Package Page; ComponentLink3URL: http://www.national.com/packaging/folders/mua08a.html
footprint MUA08A_N (TSOP, 8-Leads, Body 3x3mm, Pitch 0.65mm, IPC Medium Density)
footprint MUA08A_L (TSOP, 8-Leads, Body 3x3mm, Pitch 0.65mm, IPC High Density)
footprint MUA08A_M (TSOP, 8-Leads, Body 3x3mm, Pitch 0.65mm, IPC Low Density)
simulation model LMP2232 (SUBCKT)
pins on every part: 4 V- (power), 8 V+ (power)
part A pins: 1 OUTA (out), 2 INA- (in), 3 INA+ (in)
part B pins: 5 INB+ (in), 6 INB- (in), 7 OUTB (out)

## LMP2232AMME/NOPB
designator U?
Dual, Micropower, 1.6V, Precision , Operational Amplifier with CMOS Input, 8-pin Mini SOIC, Pb-Free; PartNumber: LMP2232AMME/NOPB; Manufacturer: National Semiconductor; PackageTopMarking: ZXTT*AK5A; PowerWise: Y; CompType: Amplifiers; Published: 1-Mar-2010; DatasheetVersion: Dec-2008; PackageVersion: revF, Apr-2008; PackageReference: MUA08A; Publisher: Altium Limited; PackageDescription: MINI SOIC, .118 x .118 x .034in, 8 Lead, .0256in Pitch; Supplier 1: Digi-Key; Supplier Part Number 1: LMP2232AMME-ND; RoHS: Y; PinCount: 8; Code_JEDEC: MO-187-AA; ComponentLink1Description: LMP2232 Datasheet; ComponentLink1URL: http://www.national.com/ds/LM/LMP2232.pdf; ComponentLink2Description: LMP2232 Web Page; ComponentLink2URL: http://www.national.com/pf/LM/LMP2232.html; ComponentLink3Description: MUA08A Package Page; ComponentLink3URL: http://www.national.com/packaging/folders/mua08a.html
footprint MUA08A_N (TSOP, 8-Leads, Body 3x3mm, Pitch 0.65mm, IPC Medium Density)
footprint MUA08A_L (TSOP, 8-Leads, Body 3x3mm, Pitch 0.65mm, IPC High Density)
footprint MUA08A_M (TSOP, 8-Leads, Body 3x3mm, Pitch 0.65mm, IPC Low Density)
simulation model LMP2232 (SUBCKT)
pins on every part: 4 V- (power), 8 V+ (power)
part A pins: 1 OUTA (out), 2 INA- (in), 3 INA+ (in)
part B pins: 5 INB+ (in), 6 INB- (in), 7 OUTB (out)

## LMP2232AMMX/NOPB
designator U?
Dual, Micropower, 1.6V, Precision , Operational Amplifier with CMOS Input, 8-pin Mini SOIC, Pb-Free; PartNumber: LMP2232AMMX/NOPB; Manufacturer: National Semiconductor; PackageTopMarking: ZXTT*AK5A; PowerWise: Y; CompType: Amplifiers; Published: 1-Mar-2010; DatasheetVersion: Dec-2008; PackageVersion: revF, Apr-2008; PackageReference: MUA08A; Publisher: Altium Limited; PackageDescription: MINI SOIC, .118 x .118 x .034in, 8 Lead, .0256in Pitch; Supplier 1: Digi-Key; Supplier Part Number 1: LMP2232AMMX-ND; RoHS: Y; PinCount: 8; Code_JEDEC: MO-187-AA; ComponentLink1Description: LMP2232 Datasheet; ComponentLink1URL: http://www.national.com/ds/LM/LMP2232.pdf; ComponentLink2Description: LMP2232 Web Page; ComponentLink2URL: http://www.national.com/pf/LM/LMP2232.html; ComponentLink3Description: MUA08A Package Page; ComponentLink3URL: http://www.national.com/packaging/folders/mua08a.html
footprint MUA08A_N (TSOP, 8-Leads, Body 3x3mm, Pitch 0.65mm, IPC Medium Density)
footprint MUA08A_L (TSOP, 8-Leads, Body 3x3mm, Pitch 0.65mm, IPC High Density)
footprint MUA08A_M (TSOP, 8-Leads, Body 3x3mm, Pitch 0.65mm, IPC Low Density)
simulation model LMP2232 (SUBCKT)
pins on every part: 4 V- (power), 8 V+ (power)
part A pins: 1 OUTA (out), 2 INA- (in), 3 INA+ (in)
part B pins: 5 INB+ (in), 6 INB- (in), 7 OUTB (out)

## LMP2232BMA
designator U?
Dual, Micropower, 1.6V, Precision , Operational Amplifier with CMOS Input, 8-pin Narrow SOIC; PartNumber: LMP2232BMA; Manufacturer: National Semiconductor; PackageTopMarking: NSZXTT*LMP22*32BMA; PowerWise: Y; CompType: Amplifiers; Published: 4-Dec-2008; DatasheetVersion: Dec-2008; PackageVersion: revM, May-2009; PackageReference: M08A; Publisher: Altium Limited; PackageDescription: SOIC Narrow, 4.9 x 3.9 x 1.45mm, 8 Lead, 1.27mm Pitch; RoHS: Y; PinCount: 8; Code_JEDEC: MS-012-AA; Code_IPC: SOIC127P600-8; ComponentLink1Description: LMP2232 Datasheet; ComponentLink1URL: http://www.national.com/ds/LM/LMP2232.pdf; ComponentLink2Description: LMP2232 Web Page; ComponentLink2URL: http://www.national.com/pf/LM/LMP2232.html; ComponentLink3Description: M08A Package Page; ComponentLink3URL: http://www.national.com/packaging/folders/m08a.html
footprint M08A_N (SOIC, 8-Leads, Body 4.9x3.9mm, Pitch 1.27mm, IPC Medium Density)
footprint M08A_L (SOIC, 8-Leads, Body 4.9x3.9mm, Pitch 1.27mm, IPC High Density)
footprint M08A_M (SOIC, 8-Leads, Body 4.9x3.9mm, Pitch 1.27mm, IPC Low Density)
pins on every part: 4 V- (power), 8 V+ (power)
part A pins: 1 OUTA (out), 2 INA- (in), 3 INA+ (in)
part B pins: 5 INB+ (in), 6 INB- (in), 7 OUTB (out)

## LMP2232BMA/NOPB
designator U?
Dual, Micropower, 1.6V, Precision , Operational Amplifier with CMOS Input, 8-pin Narrow SOIC, Pb-Free; PartNumber: LMP2232BMA/NOPB; Manufacturer: National Semiconductor; PackageTopMarking: NSZXTT*LMP22*32BMA; PowerWise: Y; CompType: Amplifiers; Published: 1-Mar-2010; DatasheetVersion: Dec-2008; PackageVersion: revM, May-2009; PackageReference: M08A; Publisher: Altium Limited; PackageDescription: SOIC Narrow, 4.9 x 3.9 x 1.45mm, 8 Lead, 1.27mm Pitch; Supplier 1: Digi-Key; Supplier Part Number 1: LMP2232BMA-ND; RoHS: Y; PinCount: 8; Code_JEDEC: MS-012-AA; Code_IPC: SOIC127P600-8; ComponentLink1Description: LMP2232 Datasheet; ComponentLink1URL: http://www.national.com/ds/LM/LMP2232.pdf; ComponentLink2Description: LMP2232 Web Page; ComponentLink2URL: http://www.national.com/pf/LM/LMP2232.html; ComponentLink3Description: M08A Package Page; ComponentLink3URL: http://www.national.com/packaging/folders/m08a.html
footprint M08A_N (SOIC, 8-Leads, Body 4.9x3.9mm, Pitch 1.27mm, IPC Medium Density)
footprint M08A_L (SOIC, 8-Leads, Body 4.9x3.9mm, Pitch 1.27mm, IPC High Density)
footprint M08A_M (SOIC, 8-Leads, Body 4.9x3.9mm, Pitch 1.27mm, IPC Low Density)
simulation model LMP2232 (SUBCKT)
pins on every part: 4 V- (power), 8 V+ (power)
part A pins: 1 OUTA (out), 2 INA- (in), 3 INA+ (in)
part B pins: 5 INB+ (in), 6 INB- (in), 7 OUTB (out)

## LMP2232BMAE/NOPB
designator U?
Dual, Micropower, 1.6V, Precision , Operational Amplifier with CMOS Input, 8-pin Narrow SOIC, Pb-Free; PartNumber: LMP2232BMAE/NOPB; Manufacturer: National Semiconductor; PackageTopMarking: NSZXTT*LMP22*32BMA; PowerWise: Y; CompType: Amplifiers; Published: 1-Mar-2010; DatasheetVersion: Dec-2008; PackageVersion: revM, May-2009; PackageReference: M08A; Publisher: Altium Limited; PackageDescription: SOIC Narrow, 4.9 x 3.9 x 1.45mm, 8 Lead, 1.27mm Pitch; Supplier 1: Digi-Key; Supplier Part Number 1: LMP2232BMAE-ND; RoHS: Y; PinCount: 8; Code_JEDEC: MS-012-AA; Code_IPC: SOIC127P600-8; ComponentLink1Description: LMP2232 Datasheet; ComponentLink1URL: http://www.national.com/ds/LM/LMP2232.pdf; ComponentLink2Description: LMP2232 Web Page; ComponentLink2URL: http://www.national.com/pf/LM/LMP2232.html; ComponentLink3Description: M08A Package Page; ComponentLink3URL: http://www.national.com/packaging/folders/m08a.html
footprint M08A_N (SOIC, 8-Leads, Body 4.9x3.9mm, Pitch 1.27mm, IPC Medium Density)
footprint M08A_L (SOIC, 8-Leads, Body 4.9x3.9mm, Pitch 1.27mm, IPC High Density)
footprint M08A_M (SOIC, 8-Leads, Body 4.9x3.9mm, Pitch 1.27mm, IPC Low Density)
simulation model LMP2232 (SUBCKT)
pins on every part: 4 V- (power), 8 V+ (power)
part A pins: 1 OUTA (out), 2 INA- (in), 3 INA+ (in)
part B pins: 5 INB+ (in), 6 INB- (in), 7 OUTB (out)

## LMP2232BMAX/NOPB
designator U?
Dual, Micropower, 1.6V, Precision , Operational Amplifier with CMOS Input, 8-pin Narrow SOIC, Pb-Free; PartNumber: LMP2232BMAX/NOPB; Manufacturer: National Semiconductor; PackageTopMarking: NSZXTT*LMP22*32BMA; PowerWise: Y; CompType: Amplifiers; Published: 1-Mar-2010; DatasheetVersion: Dec-2008; PackageVersion: revM, May-2009; PackageReference: M08A; Publisher: Altium Limited; PackageDescription: SOIC Narrow, 4.9 x 3.9 x 1.45mm, 8 Lead, 1.27mm Pitch; Supplier 1: Digi-Key; Supplier Part Number 1: LMP2232BMAX-ND; RoHS: Y; PinCount: 8; Code_JEDEC: MS-012-AA; Code_IPC: SOIC127P600-8; ComponentLink1Description: LMP2232 Datasheet; ComponentLink1URL: http://www.national.com/ds/LM/LMP2232.pdf; ComponentLink2Description: LMP2232 Web Page; ComponentLink2URL: http://www.national.com/pf/LM/LMP2232.html; ComponentLink3Description: M08A Package Page; ComponentLink3URL: http://www.national.com/packaging/folders/m08a.html
footprint M08A_N (SOIC, 8-Leads, Body 4.9x3.9mm, Pitch 1.27mm, IPC Medium Density)
footprint M08A_L (SOIC, 8-Leads, Body 4.9x3.9mm, Pitch 1.27mm, IPC High Density)
footprint M08A_M (SOIC, 8-Leads, Body 4.9x3.9mm, Pitch 1.27mm, IPC Low Density)
simulation model LMP2232 (SUBCKT)
pins on every part: 4 V- (power), 8 V+ (power)
part A pins: 1 OUTA (out), 2 INA- (in), 3 INA+ (in)
part B pins: 5 INB+ (in), 6 INB- (in), 7 OUTB (out)

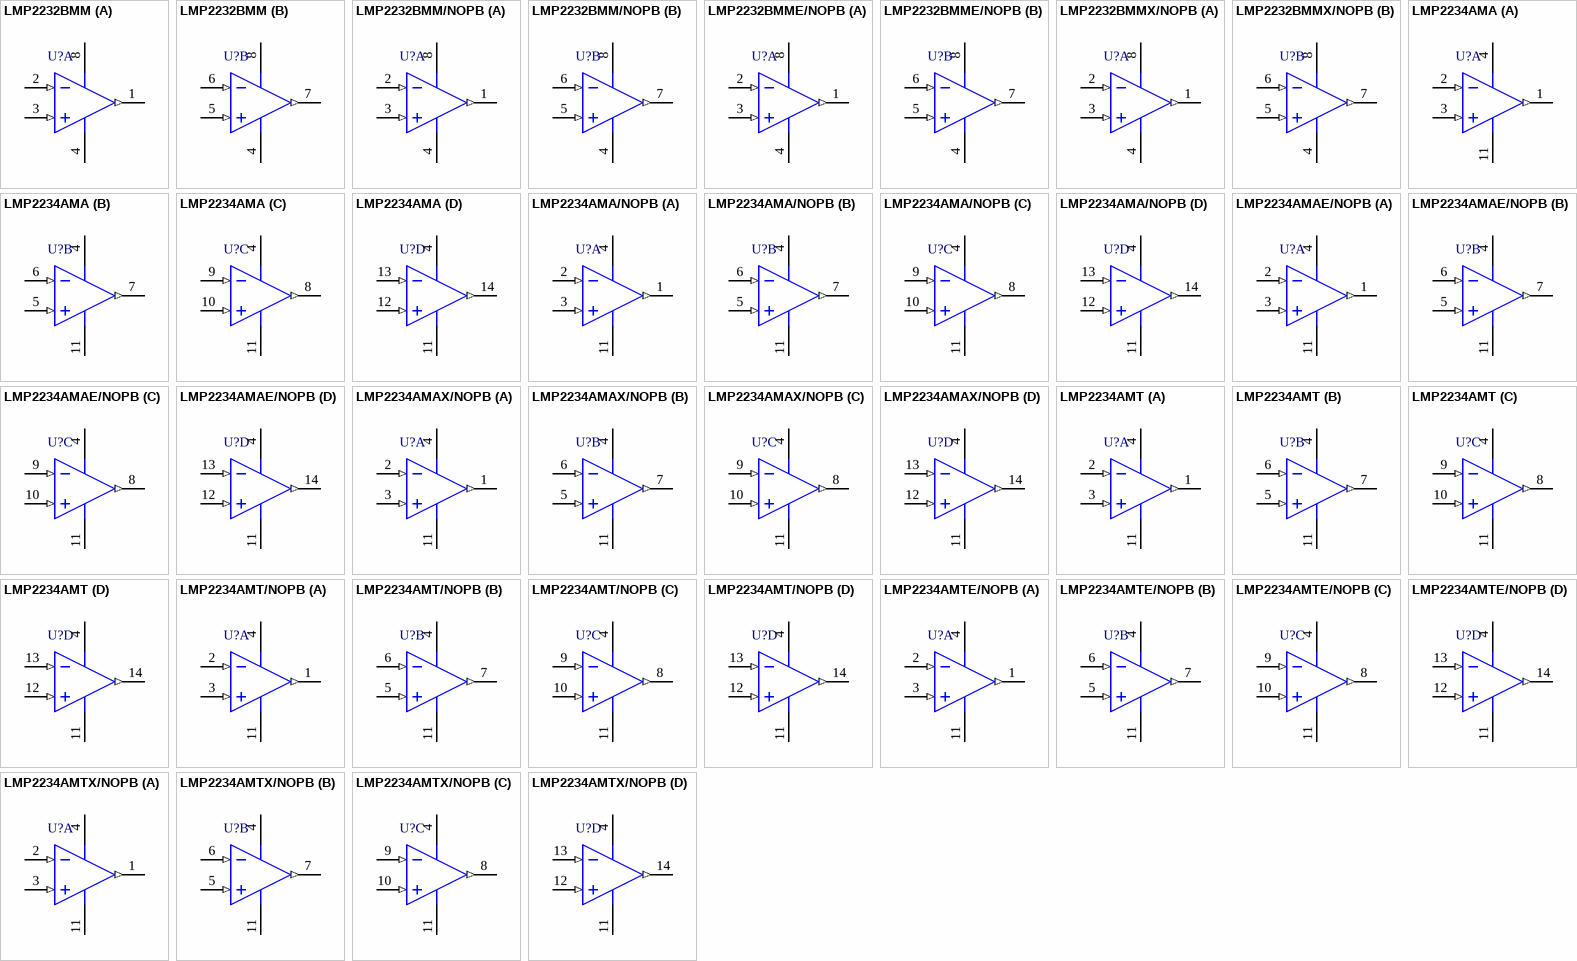
[diagram p57: symbols LMP2232BMM to LMP2234AMTX/NOPB]

## LMP2232BMM
designator U?
Dual, Micropower, 1.6V, Precision , Operational Amplifier with CMOS Input, 8-pin Mini SOIC; PartNumber: LMP2232BMM; Manufacturer: National Semiconductor; PackageTopMarking: ZXTT*AK5B; PowerWise: Y; CompType: Amplifiers; Published: 4-Dec-2008; DatasheetVersion: Dec-2008; PackageVersion: revF, Apr-2008; PackageReference: MUA08A; Publisher: Altium Limited; PackageDescription: MINI SOIC, .118 x .118 x .034in, 8 Lead, .0256in Pitch; RoHS: Y; PinCount: 8; Code_JEDEC: MO-187-AA; ComponentLink1Description: LMP2232 Datasheet; ComponentLink1URL: http://www.national.com/ds/LM/LMP2232.pdf; ComponentLink2Description: LMP2232 Web Page; ComponentLink2URL: http://www.national.com/pf/LM/LMP2232.html; ComponentLink3Description: MUA08A Package Page; ComponentLink3URL: http://www.national.com/packaging/folders/mua08a.html
footprint MUA08A_N (TSOP, 8-Leads, Body 3x3mm, Pitch 0.65mm, IPC Medium Density)
footprint MUA08A_L (TSOP, 8-Leads, Body 3x3mm, Pitch 0.65mm, IPC High Density)
footprint MUA08A_M (TSOP, 8-Leads, Body 3x3mm, Pitch 0.65mm, IPC Low Density)
pins on every part: 4 V- (power), 8 V+ (power)
part A pins: 1 OUTA (out), 2 INA- (in), 3 INA+ (in)
part B pins: 5 INB+ (in), 6 INB- (in), 7 OUTB (out)

## LMP2232BMM/NOPB
designator U?
Dual, Micropower, 1.6V, Precision , Operational Amplifier with CMOS Input, 8-pin Mini SOIC, Pb-Free; PartNumber: LMP2232BMM/NOPB; Manufacturer: National Semiconductor; PackageTopMarking: ZXTT*AK5B; PowerWise: Y; CompType: Amplifiers; Published: 1-Mar-2010; DatasheetVersion: Dec-2008; PackageVersion: revF, Apr-2008; PackageReference: MUA08A; Publisher: Altium Limited; PackageDescription: MINI SOIC, .118 x .118 x .034in, 8 Lead, .0256in Pitch; Supplier 1: Digi-Key; Supplier Part Number 1: LMP2232BMMTR-ND; Supplier 2: Digi-Key; Supplier Part Number 2: LMP2232BMMCT-ND; Supplier 3: Digi-Key; Supplier Part Number 3: LMP2232BMMDKR-ND; RoHS: Y; PinCount: 8; Code_JEDEC: MO-187-AA; ComponentLink1Description: LMP2232 Datasheet; ComponentLink1URL: http://www.national.com/ds/LM/LMP2232.pdf; ComponentLink2Description: LMP2232 Web Page; ComponentLink2URL: http://www.national.com/pf/LM/LMP2232.html; ComponentLink3Description: MUA08A Package Page; ComponentLink3URL: http://www.national.com/packaging/folders/mua08a.html
footprint MUA08A_N (TSOP, 8-Leads, Body 3x3mm, Pitch 0.65mm, IPC Medium Density)
footprint MUA08A_L (TSOP, 8-Leads, Body 3x3mm, Pitch 0.65mm, IPC High Density)
footprint MUA08A_M (TSOP, 8-Leads, Body 3x3mm, Pitch 0.65mm, IPC Low Density)
simulation model LMP2232 (SUBCKT)
pins on every part: 4 V- (power), 8 V+ (power)
part A pins: 1 OUTA (out), 2 INA- (in), 3 INA+ (in)
part B pins: 5 INB+ (in), 6 INB- (in), 7 OUTB (out)

## LMP2232BMME/NOPB
designator U?
Dual, Micropower, 1.6V, Precision , Operational Amplifier with CMOS Input, 8-pin Mini SOIC, Pb-Free; PartNumber: LMP2232BMME/NOPB; Manufacturer: National Semiconductor; PackageTopMarking: ZXTT*AK5B; PowerWise: Y; CompType: Amplifiers; Published: 1-Mar-2010; DatasheetVersion: Dec-2008; PackageVersion: revF, Apr-2008; PackageReference: MUA08A; Publisher: Altium Limited; PackageDescription: MINI SOIC, .118 x .118 x .034in, 8 Lead, .0256in Pitch; Supplier 1: Digi-Key; Supplier Part Number 1: LMP2232BMME-ND; RoHS: Y; PinCount: 8; Code_JEDEC: MO-187-AA; ComponentLink1Description: LMP2232 Datasheet; ComponentLink1URL: http://www.national.com/ds/LM/LMP2232.pdf; ComponentLink2Description: LMP2232 Web Page; ComponentLink2URL: http://www.national.com/pf/LM/LMP2232.html; ComponentLink3Description: MUA08A Package Page; ComponentLink3URL: http://www.national.com/packaging/folders/mua08a.html
footprint MUA08A_N (TSOP, 8-Leads, Body 3x3mm, Pitch 0.65mm, IPC Medium Density)
footprint MUA08A_L (TSOP, 8-Leads, Body 3x3mm, Pitch 0.65mm, IPC High Density)
footprint MUA08A_M (TSOP, 8-Leads, Body 3x3mm, Pitch 0.65mm, IPC Low Density)
simulation model LMP2232 (SUBCKT)
pins on every part: 4 V- (power), 8 V+ (power)
part A pins: 1 OUTA (out), 2 INA- (in), 3 INA+ (in)
part B pins: 5 INB+ (in), 6 INB- (in), 7 OUTB (out)

## LMP2232BMMX/NOPB
designator U?
Dual, Micropower, 1.6V, Precision , Operational Amplifier with CMOS Input, 8-pin Mini SOIC, Pb-Free; PartNumber: LMP2232BMMX/NOPB; Manufacturer: National Semiconductor; PackageTopMarking: ZXTT*AK5B; PowerWise: Y; CompType: Amplifiers; Published: 1-Mar-2010; DatasheetVersion: Dec-2008; PackageVersion: revF, Apr-2008; PackageReference: MUA08A; Publisher: Altium Limited; PackageDescription: MINI SOIC, .118 x .118 x .034in, 8 Lead, .0256in Pitch; Supplier 1: Digi-Key; Supplier Part Number 1: LMP2232BMMX-ND; RoHS: Y; PinCount: 8; Code_JEDEC: MO-187-AA; ComponentLink1Description: LMP2232 Datasheet; ComponentLink1URL: http://www.national.com/ds/LM/LMP2232.pdf; ComponentLink2Description: LMP2232 Web Page; ComponentLink2URL: http://www.national.com/pf/LM/LMP2232.html; ComponentLink3Description: MUA08A Package Page; ComponentLink3URL: http://www.national.com/packaging/folders/mua08a.html
footprint MUA08A_N (TSOP, 8-Leads, Body 3x3mm, Pitch 0.65mm, IPC Medium Density)
footprint MUA08A_L (TSOP, 8-Leads, Body 3x3mm, Pitch 0.65mm, IPC High Density)
footprint MUA08A_M (TSOP, 8-Leads, Body 3x3mm, Pitch 0.65mm, IPC Low Density)
simulation model LMP2232 (SUBCKT)
pins on every part: 4 V- (power), 8 V+ (power)
part A pins: 1 OUTA (out), 2 INA- (in), 3 INA+ (in)
part B pins: 5 INB+ (in), 6 INB- (in), 7 OUTB (out)

## LMP2234AMA
designator U?
Quad Micropower, 1.6V, Precision, Operational Amplifier with CMOS Input, 14-pin Narrow SOIC; PartNumber: LMP2234AMA; Manufacturer: National Semiconductor; PackageTopMarking: NSUZXYTT*LMP2234*AMA; PowerWise: N; CompType: Amplifiers; Published: 4-Dec-2008; DatasheetVersion: Dec-2008; PackageVersion: revJ, Jan-1996; PackageReference: M14A; Publisher: Altium Limited; PackageDescription: Molded Package S.O., .150in Wide, 14 Lead; RoHS: Y; PinCount: 14; Code_JEDEC: MS-012AB; Code_IPC: SOIC127P600-14; ComponentLink1Description: LMP2234 Datasheet; ComponentLink1URL: http://www.national.com/ds/LM/LMP2234.pdf; ComponentLink2Description: LMP2234 Web Page; ComponentLink2URL: http://www.national.com/pf/LM/LMP2234.html; ComponentLink3Description: M14A Package Page; ComponentLink3URL: http://www.national.com/packaging/folders/m14a.html
footprint M14A_N (SOIC, 14-Leads, Body 8.6x3.9mm, Pitch 1.27mm, IPC Medium Density)
footprint M14A_L (SOIC, 14-Leads, Body 8.6x3.9mm, Pitch 1.27mm, IPC High Density)
footprint M14A_M (SOIC, 14-Leads, Body 8.6x3.9mm, Pitch 1.27mm, IPC Low Density)
pins on every part: 4 V+ (power), 11 V- (power)
part A pins: 1 OUTA (out), 2 INA- (in), 3 INA+ (in)
part B pins: 5 INB+ (in), 6 INB- (in), 7 OUTB (out)
part C pins: 8 OUTC (out), 9 INC- (in), 10 INC+ (in)
part D pins: 12 IND+ (in), 13 IND- (in), 14 OUTD (out)

## LMP2234AMA/NOPB
designator U?
Quad Micropower, 1.6V, Precision, Operational Amplifier with CMOS Input, 14-pin Narrow SOIC, Pb-Free; PartNumber: LMP2234AMA/NOPB; Manufacturer: National Semiconductor; PackageTopMarking: NSUZXYTTE#*LMP2234*AMA; PowerWise: N; CompType: Amplifiers; Published: 1-Mar-2010; DatasheetVersion: Dec-2008; PackageVersion: revJ, Jan-1996; PackageReference: M14A; Publisher: Altium Limited; PackageDescription: Molded Package S.O., .150in Wide, 14 Lead; Supplier 1: Digi-Key; Supplier Part Number 1: LMP2234AMA-ND; Supplier 2: Farnell; Supplier Part Number 2: 1685333; RoHS: Y; PinCount: 14; Code_JEDEC: MS-012AB; Code_IPC: SOIC127P600-14; ComponentLink1Description: LMP2234 Datasheet; ComponentLink1URL: http://www.national.com/ds/LM/LMP2234.pdf; ComponentLink2Description: LMP2234 Web Page; ComponentLink2URL: http://www.national.com/pf/LM/LMP2234.html; ComponentLink3Description: M14A Package Page; ComponentLink3URL: http://www.national.com/packaging/folders/m14a.html
footprint M14A_N (SOIC, 14-Leads, Body 8.6x3.9mm, Pitch 1.27mm, IPC Medium Density)
footprint M14A_L (SOIC, 14-Leads, Body 8.6x3.9mm, Pitch 1.27mm, IPC High Density)
footprint M14A_M (SOIC, 14-Leads, Body 8.6x3.9mm, Pitch 1.27mm, IPC Low Density)
simulation model LMP2234 (SUBCKT)
pins on every part: 4 V+ (power), 11 V- (power)
part A pins: 1 OUTA (out), 2 INA- (in), 3 INA+ (in)
part B pins: 5 INB+ (in), 6 INB- (in), 7 OUTB (out)
part C pins: 8 OUTC (out), 9 INC- (in), 10 INC+ (in)
part D pins: 12 IND+ (in), 13 IND- (in), 14 OUTD (out)